# Altium schematic symbol library HC1-100-R.SchLib: 1 symbol
Pins are listed as number, name and electrical type; pins without a type are passive.

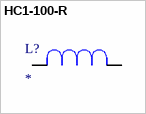
[diagram p0: symbol HC1-100-R]

## HC1-100-R
designator L?
POWER INDUCTOR; MP: HC1-100-R; MF: {'manufacturer': u'Eaton'}; Price: None; Availability: Unavailable; Value: *; Package: None
footprint IND_HC1-100-R
pins: 1, 2